# Altium schematic symbol library schematic_library.SchLib: 42 symbols
Pins are listed as number, name and electrical type; pins without a type are passive.

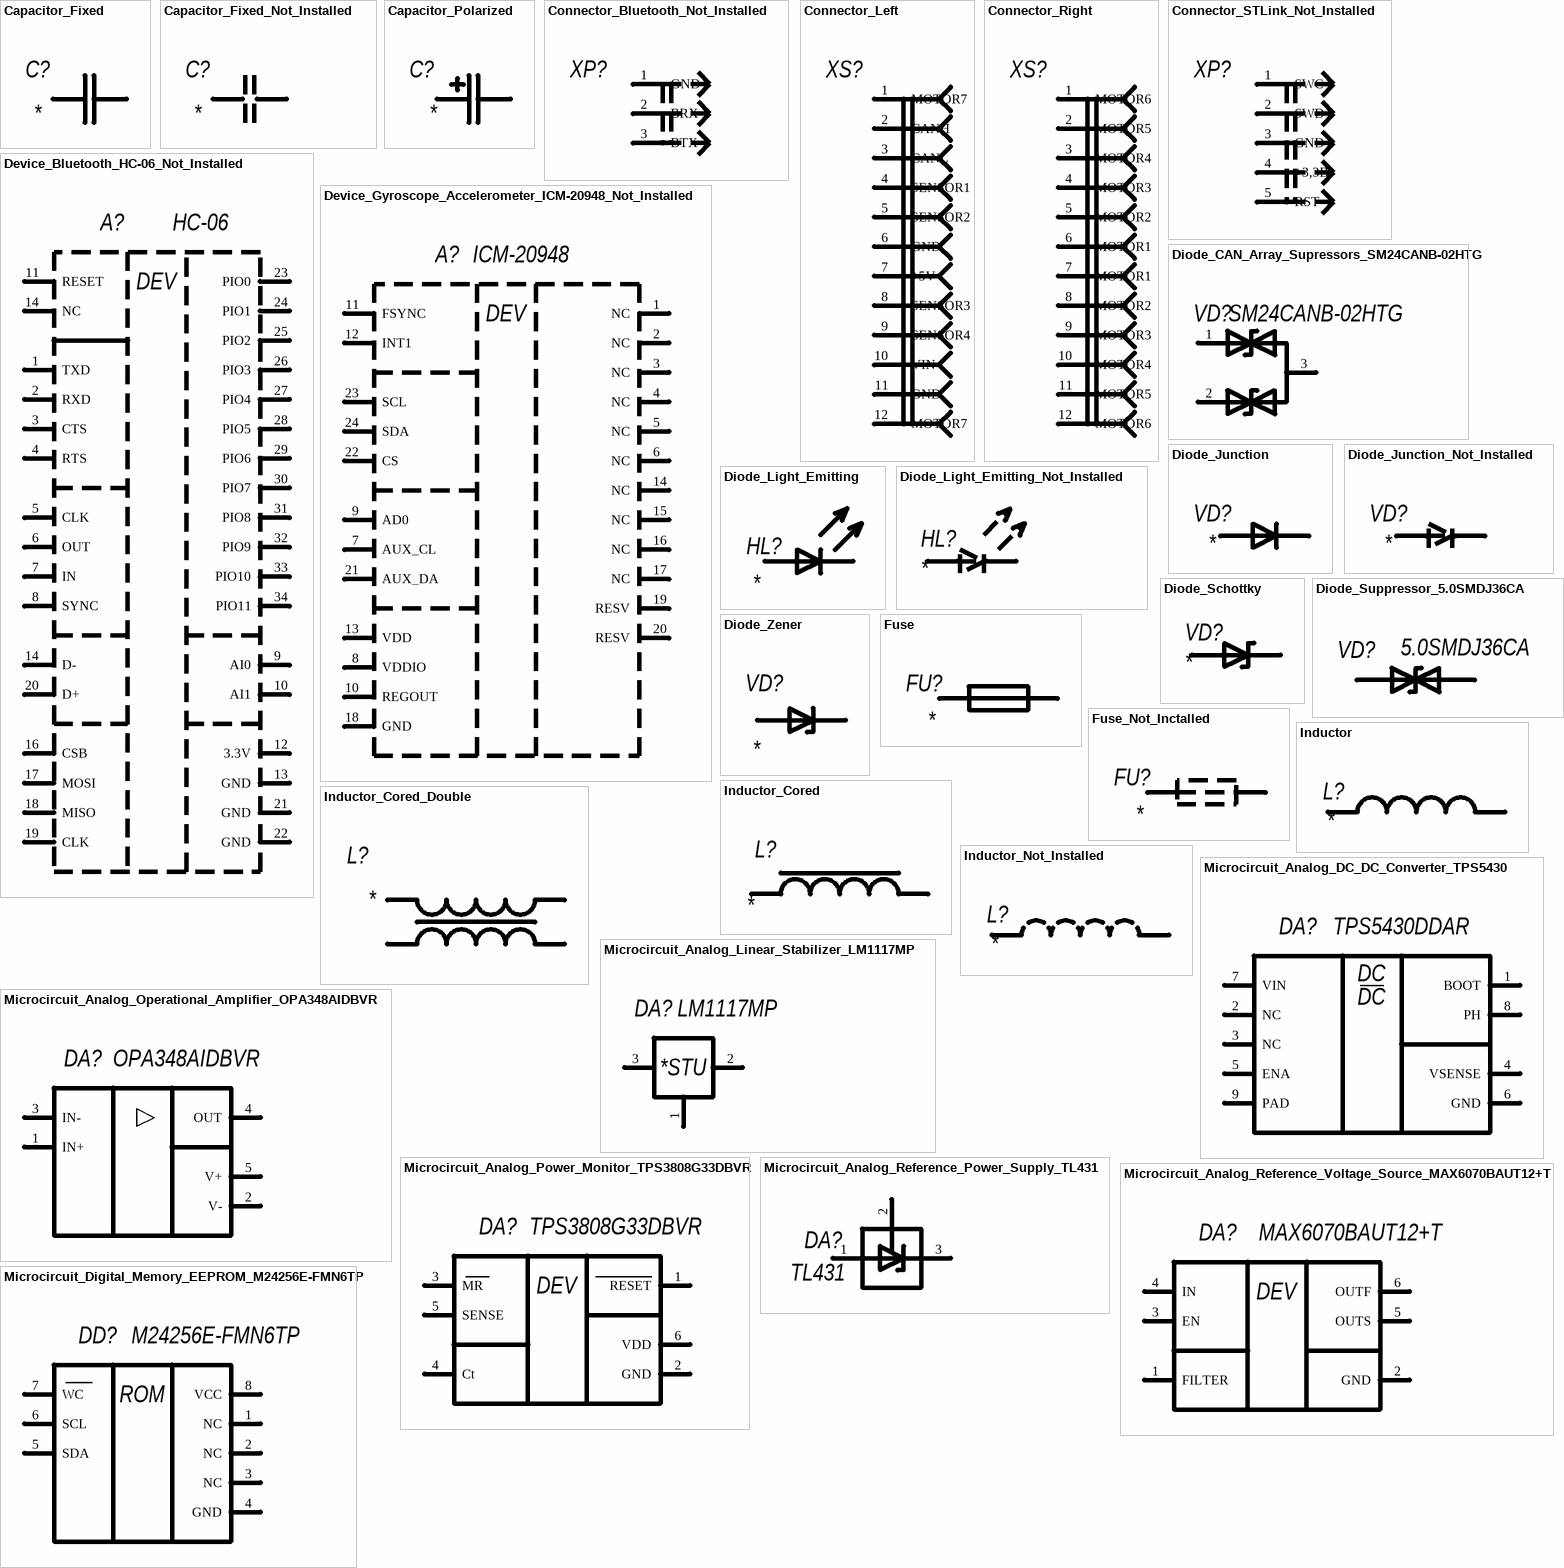
[diagram p0: symbols Capacitor_Fixed to Microcircuit_Digital_Memory_EEPROM_M24256E-FMN6TP]

## Capacitor_Fixed
designator C?
2 pin
pins: 1, 2

## Capacitor_Fixed_Not_Installed
designator C?
2 pin not installed
pins: 1, 2

## Capacitor_Polarized
designator C?
2 pin
pins: 1 Anode, 2 Cathode

## Connector_Bluetooth_Not_Installed
designator XP?  (value not drawn)
3 pin not installed
pins: 1 GND, 2 BRX, 3 BTX

## Connector_Left
designator XS?  (value not drawn)
12 pin
pins: 1 MOTOR7, 2 CANH, 3 CANL, 4 SENSOR1, 5 SENSOR2, 6 GND, 7 +5V, 8 SENSOR3, 9 SENSOR4, 10 VIN, 11 GND, 12 MOTOR7

## Connector_Right
designator XS?  (value not drawn)
12 pin
pins: 1 MOTOR6, 2 MOTOR5, 3 MOTOR4, 4 MOTOR3, 5 MOTOR2, 6 MOTOR1, 7 MOTOR1, 8 MOTOR2, 9 MOTOR3, 10 MOTOR4, 11 MOTOR5, 12 MOTOR6

## Connector_STLink_Not_Installed
designator XP?  (value not drawn)
5 pin not installed
pins: 1 SWC, 2 SWD, 3 GND, 4 +3,3В, 5 RST

## Device_Bluetooth_HC-06_Not_Installed
designator A?, comment HC-06
34 pin 3,3V not installed; ComponentLink1Description: chipdip; ComponentLink1URL: https://www.chipdip.ru/product/hc-06; ComponentLink2Description: datasheet; ComponentLink2URL: https://static.chipdip.ru/lib/734/DOC021734960.pdf; ComponentLink3Description: elecbee; ComponentLink3URL: https://www.elecbee.com/en-24700-RS232-TTL-HC-06-Wireless-bluetooth-RF-Transceiver-Serial-Module
pins: 1 TXD, 2 RXD, 3 CTS, 4 RTS, 5 CLK, 6 OUT, 7 IN, 8 SYNC, 9 AI0, 10 AI1, 11 RESET, 12 3.3V, 13 GND, 14 NC, 14 D-, 16 CSB, 17 MOSI, 18 MISO, 19 CLK, 20 D+, 21 GND, 22 GND, 23 PIO0, 24 PIO1, 25 PIO2, 26 PIO3, 27 PIO4, 28 PIO5, 29 PIO6, 30 PIO7, 31 PIO8, 32 PIO9, 33 PIO10, 34 PIO11
text: DEV

## Device_Gyroscope_Accelerometer_ICM-20948_Not_Installed
designator A?, comment ICM-20948
24 pin 3,3V not installed; ComponentLink1Description: chipdip; ComponentLink1URL: https://www.chipdip.ru/product0/8025239061; ComponentLink2Description: datasheet; ComponentLink2URL: https://static.chipdip.ru/lib/718/DOC011718862.pdf
pins: 1 NC, 2 NC, 3 NC, 4 NC, 5 NC, 6 NC, 7 AUX_CL, 8 VDDIO, 9 AD0, 10 REGOUT, 11 FSYNC, 12 INT1, 13 VDD, 14 NC, 15 NC, 16 NC, 17 NC, 18 GND, 19 RESV, 20 RESV, 21 AUX_DA, 22 CS, 23 SCL, 24 SDA
text: DEV

## Diode_CAN_Array_Supressors_SM24CANB-02HTG
designator VD?, comment SM24CANB-02HTG
3 pin; ComponentLink1Description: chipdip; ComponentLink1URL: https://www.chipdip.ru/product0/8002766404; ComponentLink2Description: datasheet; ComponentLink2URL: https://static.chipdip.ru/lib/251/DOC011251842.pdf
pins: 1 CANH, 2 CANL, 3 COM

## Diode_Junction
designator VD?
2 pin
pins: 1 Anode, 2 Cathode

## Diode_Junction_Not_Installed
designator VD?
2 pin
pins: 1 Anode, 2 Cathode

## Diode_Light_Emitting
designator HL?
2 pin
pins: 1 Anode, 2 Cathode

## Diode_Light_Emitting_Not_Installed
designator HL?
2 pin not installed
pins: 1 Anode, 2 Cathode

## Diode_Schottky
designator VD?
2 pin
pins: 1 Anode, 2 Cathode

## Diode_Suppressor_5.0SMDJ36CA
designator VD?, comment 5.0SMDJ36CA
2 pin; ComponentLink1Description: chipdip; ComponentLink1URL: https://www.chipdip.by/product0/8003261599; ComponentLink2Description: datasheet; ComponentLink2URL: https://static.chipdip.ru/lib/948/DOC005948039.pdf
pins: 1, 2

## Diode_Zener
designator VD?
2 pin
pins: 1 Anode, 2 Cathode

## Fuse
designator FU?
2 pin
pins: 1, 2

## Fuse_Not_Inctalled
designator FU?
2 pin
pins: 1, 2

## Inductor
designator L?
2 pin
pins: 1, 2

## Inductor_Cored
designator L?
2 pin
pins: 1, 2

## Inductor_Cored_Double
designator L?
4 pin
pins: 1, 2, 3, 4

## Inductor_Not_Installed
designator L?
2 pin not installed
pins: 1, 2

## Microcircuit_Analog_DC_DC_Converter_TPS5430
designator DA?, comment TPS5430DDAR
8 pin + pad from 12V to 5V; ComponentLink1Description: chipdip; ComponentLink1URL: https://www.chipdip.ru/product/tps5430ddar; ComponentLink2Description: datasheet; ComponentLink2URL: https://static.chipdip.ru/lib/666/DOC012666766.pdf
pins: 1 BOOT, 2 NC, 3 NC, 4 VSENSE, 5 ENA, 6 GND, 7 VIN, 8 PH, 9 PAD
text: DC

## Microcircuit_Analog_Linear_Stabilizer_LM1117MP
designator DA?, comment LM1117MP
3 pin from 5V to 3,3V; ComponentLink1Description: chipdip; ComponentLink1URL: https://www.chipdip.ru/product/lm1117mp-3.3-nopb-sot223; ComponentLink2Description: datasheet; ComponentLink2URL: https://static.chipdip.ru/lib/028/DOC013028610.pdf
pins: 1 GND, 2 VOUT, 3 VIN
text: *STU

## Microcircuit_Analog_Operational_Amplifier_OPA348AIDBVR
designator DA?, comment OPA348AIDBVR
5 pin 3,3V; ComponentLink1Description: chipdip; ComponentLink1URL: https://www.chipdip.ru/product/opa348aidbvr-ti; ComponentLink2Description: datasheet; ComponentLink2URL: https://static.chipdip.ru/lib/923/DOC012923370.pdf
pins: 1 IN+, 2 V-, 3 IN-, 4 OUT, 5 V+

## Microcircuit_Analog_Power_Monitor_TPS3808G33DBVR
designator DA?, comment TPS3808G33DBVR
6 pin 3,3V; ComponentLink1Description: chipdip; ComponentLink1URL: https://www.chipdip.ru/product0/8064500674; ComponentLink2Description: datasheet; ComponentLink2URL: *https://static.chipdip.ru/lib/928/DOC012928991.pdf
pins: 1 RESET, 2 GND, 3 MR, 4 Ct, 5 SENSE, 6 VDD
text: DEV

## Microcircuit_Analog_Reference_Power_Supply_TL431
designator DA?, comment TL431
3 pin; ComponentLink1Description: chipdip; ComponentLink1URL: https://www.chipdip.by/product/tl431-sot-23; ComponentLink2Description: datasheet; ComponentLink2URL: https://static.chipdip.ru/lib/787/DOC021787563.pdf
pins: 1 Cathode, 2 Reference, 3 Anode

## Microcircuit_Analog_Reference_Voltage_Source_MAX6070BAUT12+T
designator DA?, comment MAX6070BAUT12+T
6 pin 3,3V; ComponentLink1Description: chipdip; ComponentLink1URL: https://www.chipdip.ru/product/max6070baut12-t; ComponentLink2Description: datasheet; ComponentLink2URL: https://static.chipdip.ru/lib/601/DOC028601577.pdf
pins: 1 FILTER, 2 GND, 3 EN, 4 IN, 5 OUTS, 6 OUTF
text: DEV

## Microcircuit_Digital_Memory_EEPROM_M24256E-FMN6TP
designator DD?, comment M24256E-FMN6TP
8 pin 3,3V; ComponentLink1Description: chipdip; ComponentLink1URL: https://www.chipdip.by/product0/8012153523; ComponentLink2Description: datasheet; ComponentLink2URL: https://static.chipdip.ru/lib/851/DOC040851462.pdf
pins: 1 NC, 2 NC, 3 NC, 4 GND, 5 SDA, 6 SCL, 7 WC, 8 VCC
text: ROM

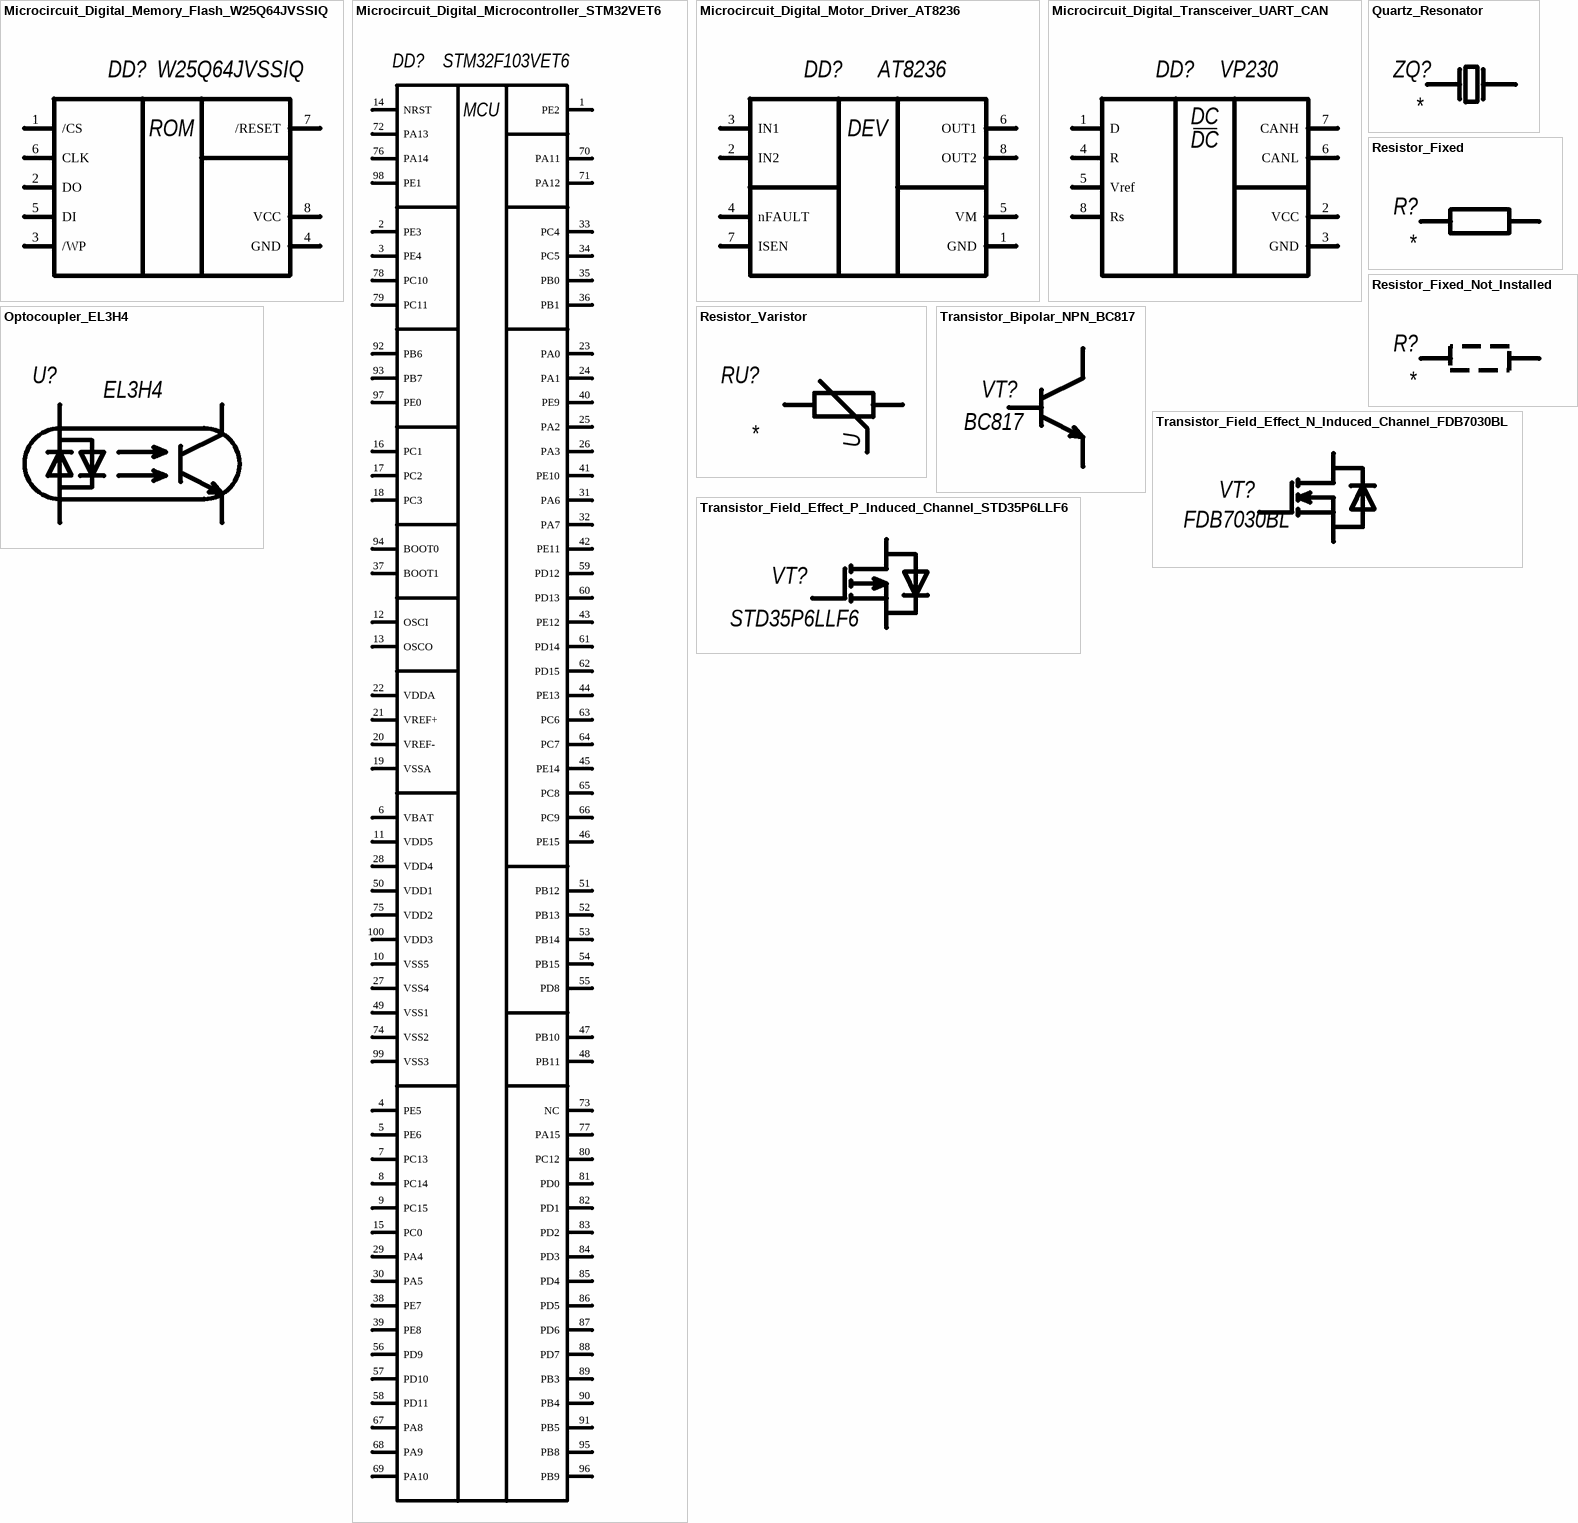
[diagram p1: symbols Microcircuit_Digital_Memory_Flash_W25Q64JVSSIQ to Transistor_Field_Effect_P_Induced_Channel_STD35P6LLF6]

## Microcircuit_Digital_Memory_Flash_W25Q64JVSSIQ
designator DD?, comment W25Q64JVSSIQ
8 pin 3,3V; ComponentLink1Description: chipdip; ComponentLink1URL: https://www.chipdip.by/product/w25q64jvssiq; ComponentLink2Description: datasheet; ComponentLink2URL: https://static.chipdip.ru/lib/008/DOC013008214.pdf
pins: 1 /CS, 2 DO, 3 /WP, 4 GND, 5 DI, 6 CLK, 7 /RESET, 8 VCC
text: ROM

## Microcircuit_Digital_Microcontroller_STM32VET6
designator DD?, comment STM32F103VET6
100 pin 3,3V; ComponentLink1Description: chipdip; ComponentLink1URL: https://www.chipdip.ru/product0/8014323022; ComponentLink2Description: datasheet; ComponentLink2URL: https://static.chipdip.ru/lib/583/DOC001583197.pdf
pins: 1 PE2, 2 PE3, 3 PE4, 4 PE5, 5 PE6, 6 VBAT, 7 PC13, 8 PC14, 9 PC15, 10 VSS5, 11 VDD5, 12 OSCI, 13 OSCO, 14 NRST, 15 PC0, 16 PC1, 17 PC2, 18 PC3, 19 VSSA, 20 VREF-, 21 VREF+, 22 VDDA, 23 PA0, 24 PA1, 25 PA2, 26 PA3, 27 VSS4, 28 VDD4, 29 PA4, 30 PA5, 31 PA6, 32 PA7, 33 PC4, 34 PC5, 35 PB0, 36 PB1, 37 BOOT1, 38 PE7, 39 PE8, 40 PE9, 41 PE10, 42 PE11, 43 PE12, 44 PE13, 45 PE14, 46 PE15, 47 PB10, 48 PB11, 49 VSS1, 50 VDD1, 51 PB12, 52 PB13, 53 PB14, 54 PB15, 55 PD8, 56 PD9, 57 PD10, 58 PD11, 59 PD12, 60 PD13, 61 PD14, 62 PD15, 63 PC6, 64 PC7, 65 PC8, 66 PC9, 67 PA8, 68 PA9, 69 PA10, 70 PA11, 71 PA12, 72 PA13, 73 NC, 74 VSS2, 75 VDD2, 76 PA14, 77 PA15, 78 PC10, 79 PC11, 80 PC12, 81 PD0, 82 PD1, 83 PD2, 84 PD3, 85 PD4, 86 PD5, 87 PD6, 88 PD7, 89 PB3, 90 PB4, 91 PB5, 92 PB6, 93 PB7, 94 BOOT0, 95 PB8, 96 PB9, 97 PE0, 98 PE1, 99 VSS3, 100 VDD3
text: MCU

## Microcircuit_Digital_Motor_Driver_AT8236
designator DD?, comment AT8236
8 pin 12V; ComponentLink1Description: chipdip; ComponentLink1URL: https://www.chipdip.by/product0/8015815062; ComponentLink2Description: datasheet; ComponentLink2URL: https://static.chipdip.ru/lib/795/DOC042795118.pdf
pins: 1 GND, 2 IN2, 3 IN1, 4 nFAULT, 5 VM, 6 OUT1, 7 ISEN, 8 OUT2
text: DEV

## Microcircuit_Digital_Transceiver_UART_CAN
designator DD?, comment VP230
8 pin 3,3V; ComponentLink1Description: chipdip; ComponentLink1URL: https://www.chipdip.ru/product/sn65hvd230d; ComponentLink2Description: datasheet; ComponentLink2URL: https://static.chipdip.ru/lib/204/DOC000204848.pdf
pins: 1 D, 2 VCC, 3 GND, 4 R, 5 Vref, 6 CANL, 7 CANH, 8 Rs
text: DC

## Optocoupler_EL3H4
designator U?, comment EL3H4
4 pin; ComponentLink1Description: chipdip; ComponentLink1URL: https://www.chipdip.by/product0/8017599512; ComponentLink2Description: datasheet; ComponentLink2URL: https://static.chipdip.ru/lib/986/DOC012986431.pdf
pins: 1, 2, 3, 4

## Quartz_Resonator
designator ZQ?
2 pin
pins: 4 Anode, 5 Anode

## Resistor_Fixed
designator R?
2 pin
pins: 1, 2

## Resistor_Fixed_Not_Installed
designator R?
2 pin not installed
pins: 1, 2

## Resistor_Varistor
designator RU?
2 pin
pins: 1, 2
text: U

## Transistor_Bipolar_NPN_BC817
designator VT?, comment BC817
3 pin; ComponentLink1Description: chipdip; ComponentLink1URL: https://www.chipdip.by/product/bc817-40; ComponentLink2Description: datasheet; ComponentLink2URL: https://static.chipdip.ru/lib/156/DOC000156781.pdf
pins: 1 Base, 2 Emitter, 3 Collector

## Transistor_Field_Effect_N_Induced_Channel_FDB7030BL
designator VT?, comment FDB7030BL
3 pin; ComponentLink1Description: chipdip; ComponentLink1URL: https://www.chipdip.by/product/fdp7030bl-fairchild; ComponentLink2Description: datasheet; ComponentLink2URL: https://static.chipdip.ru/lib/304/DOC004304509.pdf
pins: 1 Gate, 2 Source, 3 Drain

## Transistor_Field_Effect_P_Induced_Channel_STD35P6LLF6
designator VT?, comment STD35P6LLF6
3 pin; ComponentLink1Description: https://www.chipdip.by/product/std35p6llf6-umw; ComponentLink1URL: https://static.chipdip.ru/lib/207/DOC035207126.pdf; ComponentLink2Description: datasheet; ComponentLink2URL: https://static.chipdip.ru/lib/207/DOC035207126.pdf
pins: 1 Gate, 2 Source, 3 Drain